# Altium schematic symbol library TVS_DIODE.SchLib: 1 symbol
Pins are listed as number, name and electrical type; pins without a type are passive.

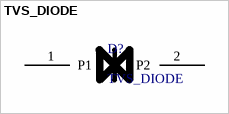
[diagram p0: symbol TVS_DIODE]

## TVS_DIODE
designator D?
TVS diode symbol
pins: 1 P1, 2 P2